# Altium footprint library 691 331 510 0xx.PcbLib: 6 footprints
Each footprint in its own frame and in the unit in brackets; x right, y up, seen from the top. Pads: shape width x height; smd on the part's side, far side on the other; paste and mask are expansions set on the pad; w line width, h text height; cw(c..) or ccw(c..) is an arc to the next point about the centre after c.
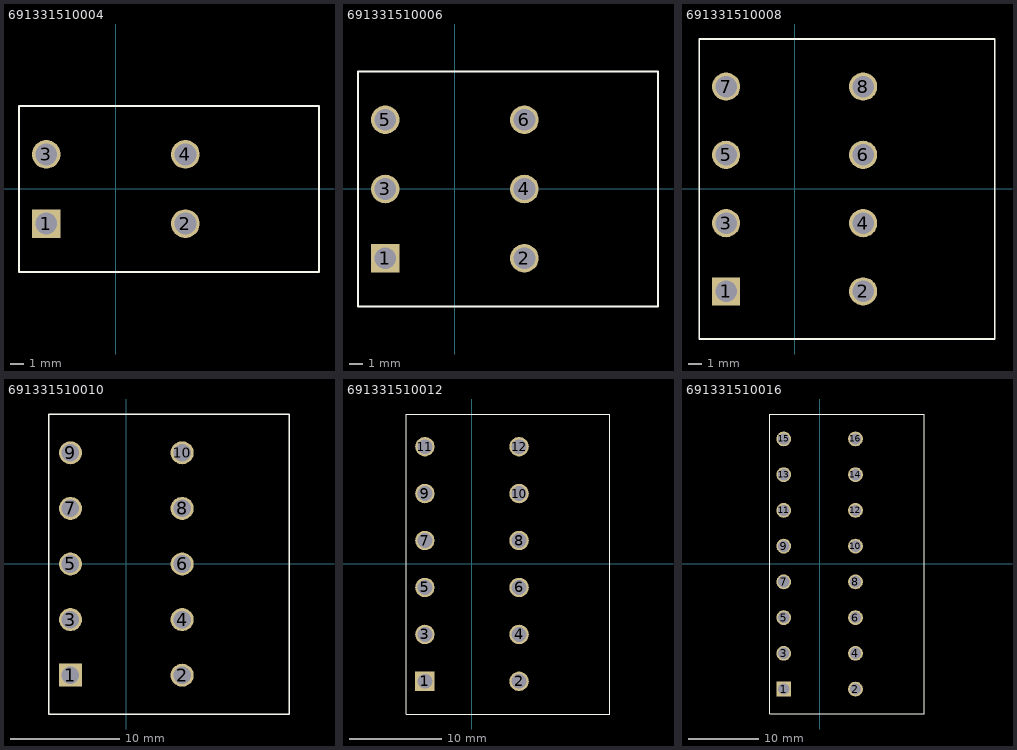
[diagram p0: the footprints below, top view; thin cyan lines are the x and y axes]

## 691331510004 [mm] "5,08mm - PCB - Dual row - Horizontal - 04p"
height 28.8
pads (4):
  rect 2.1x2.1 hole 1.6: 1(-5.1,-2.54)
  round 2.1 hole 1.6: 2(5.1,-2.54) 3(-5.1,2.54) 4(5.1,2.54)
Top Overlay:
  lines w0.127: -7.1,-6.08 -7.1,6.08 14.9,6.08 14.9,-6.08 -7.1,-6.08
3D body: height 28.81, standoff -3.99, extent -7.1,-6.08 14.9,6.08

## 691331510006 [mm] "5,08mm - PCB - Dual row - Horizontal - 06p"
height 28.8
pads (6):
  rect 2.1x2.1 hole 1.6: 1(-5.1,-5.08)
  round 2.1 hole 1.6: 2(5.1,-5.08) 3(-5.1,0) 4(5.1,0) 5(-5.1,5.08) 6(5.1,5.08)
Top Overlay:
  lines w0.127: -7.1,-3.54 -7.1,8.62 14.9,8.62 14.9,-3.54 ; -7.1,4.26 -7.1,-8.62 14.9,-8.62 14.9,4.26
3D body: height 28.81, standoff -3.99, extent -7.1,-8.62 14.9,8.62

## 691331510008 [mm] "5,08mm - PCB - Dual row - Horizontal - 08p"
height 28.8
pads (8):
  rect 2.1x2.1 hole 1.6: 1(-5.1,-7.62)
  round 2.1 hole 1.6: 2(5.1,-7.62) 3(-5.1,-2.54) 4(5.1,-2.54) 5(-5.1,2.54) 6(5.1,2.54) 7(-5.1,7.62) 8(5.1,7.62)
Top Overlay:
  lines w0.127: -7.1,-1 -7.1,11.16 14.9,11.16 14.9,-1 ; -7.1,1.72 -7.1,-11.16 14.9,-11.16 14.9,1.72
3D body: height 28.81, standoff -3.99, extent -7.1,-11.16 14.9,11.16

## 691331510010 [mm] "5,08mm - PCB - Dual row - Horizontal - 10p"
height 28.8
pads (10):
  rect 2.1x2.1 hole 1.6: 1(-5.1,-10.16)
  round 2.1 hole 1.6: 2(5.1,-10.16) 3(-5.1,-5.08) 4(5.1,-5.08) 5(-5.1,0) 6(5.1,0) 7(-5.1,5.08) 8(5.1,5.08) 9(-5.1,10.16) 10(5.1,10.16)
Top Overlay:
  lines w0.127: -7.1,-3.54 -7.1,9.34 ; -7.1,-0.82 -7.1,-13.7 14.9,-13.7 14.9,-0.82 ; -7.1,1.54 -7.1,13.7 14.9,13.7 14.9,1.54 ; 14.9,-3.54 14.9,9.34
3D body: height 28.81, standoff -3.99, extent -7.1,-13.7 14.9,13.7

## 691331510012 [mm] "5,08mm - PCB - Dual row - Horizontal - 12p"
height 28.8
pads (12):
  rect 2.1x2.1 hole 1.6: 1(-5.1,-12.7)
  round 2.1 hole 1.6: 2(5.1,-12.7) 3(-5.1,-7.62) 4(5.1,-7.62) 5(-5.1,-2.54) 6(5.1,-2.54) 7(-5.1,2.54) 8(5.1,2.54) 9(-5.1,7.62) 10(5.1,7.62) 11(-5.1,12.7) 12(5.1,12.7)
Top Overlay:
  lines w0.127: -7.1,-6.08 -7.1,6.8 ; -7.1,-3.36 -7.1,-16.24 14.9,-16.24 14.9,-3.36 ; -7.1,4.08 -7.1,16.24 14.9,16.24 14.9,4.08 ; 14.9,-6.08 14.9,6.8
3D body: height 28.81, standoff -3.99, extent -7.1,-16.24 14.9,16.24

## 691331510016 [mm] "5,08mm - PCB - Dual row - Horizontal - 16p"
height 28.8
pads (16):
  rect 2.1x2.1 hole 1.6: 1(-5.1,-17.78)
  round 2.1 hole 1.6: 2(5.1,-17.78) 3(-5.1,-12.7) 4(5.1,-12.7) 5(-5.1,-7.62) 6(5.1,-7.62) 7(-5.1,-2.54) 8(5.1,-2.54) 9(-5.1,2.54) 10(5.1,2.54) 11(-5.1,7.62) 12(5.1,7.62) 13(-5.1,12.7) 14(5.1,12.7) 15(-5.1,17.78) 16(5.1,17.78)
Top Overlay:
  lines w0.127: -7.1,-11.16 -7.1,1.72 ; -7.1,-8.44 -7.1,-21.32 14.9,-21.32 14.9,-8.44 ; -7.1,-1 -7.1,11.88 ; -7.1,9.16 -7.1,21.32 14.9,21.32 14.9,9.16 ; 14.9,-11.16 14.9,1.72 ; 14.9,-1 14.9,11.88
3D body: height 28.81, standoff -3.99, extent -7.1,-21.32 14.9,21.32